# Altium footprint library Ingenic.PcbLib: 2 footprints
Each footprint in its own frame and in the unit in brackets; x right, y up, seen from the top. Pads: shape width x height; smd on the part's side, far side on the other; paste and mask are expansions set on the pad; w line width, h text height; cw(c..) or ccw(c..) is an arc to the next point about the centre after c.
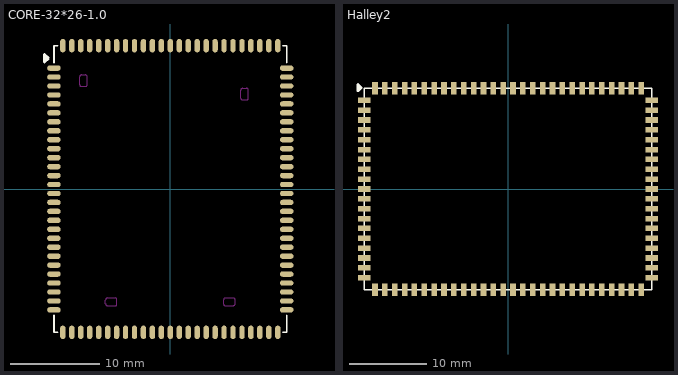
[diagram p0: the footprints below, top view; thin cyan lines are the x and y axes]

## CORE-32*26-1.0 [mm]
height 2.5
pads (106):
  oval 1.5x0.6 smd: 1(-13,13.5) 2(-13,12.5) 3(-13,11.5) 4(-13,10.5) 5(-13,9.5) 6(-13,8.5) 7(-13,7.5) 8(-13,6.5) 9(-13,5.5) 10(-13,4.5) 11(-13,3.5) 12(-13,2.5) 13(-13,1.5) 14(-13,0.5) 15(-13,-0.5) 16(-13,-1.5) 17(-13,-2.5) 18(-13,-3.5) 19(-13,-4.5) 20(-13,-5.5) 21(-13,-6.5) 22(-13,-7.5) 23(-13,-8.5) 24(-13,-9.5) 25(-13,-10.5) 26(-13,-11.5) 27(-13,-12.5) 28(-13,-13.5) 54(13,-13.5) 55(13,-12.5) 56(13,-11.5) 57(13,-10.5) 58(13,-9.5) 59(13,-8.5) 60(13,-7.5) 61(13,-6.5) 62(13,-5.5) 63(13,-4.5) 64(13,-3.5) 65(13,-2.5) 66(13,-1.5) 67(13,-0.5) 68(13,0.5) 69(13,1.5) 70(13,2.5) 71(13,3.5) 72(13,4.5) 73(13,5.5) 74(13,6.5) 75(13,7.5) 76(13,8.5) 77(13,9.5) 78(13,10.5) 79(13,11.5) 80(13,12.5) 81(13,13.5)
  oval 0.6x1.5 smd: 29(-12,-16) 30(-11,-16) 31(-10,-16) 32(-9,-16) 33(-8,-16) 34(-7,-16) 35(-6,-16) 36(-5,-16) 37(-4,-16) 38(-3,-16) 39(-2,-16) 40(-1,-16) 41(0,-16) 42(1,-16) 43(2,-16) 44(3,-16) 45(4,-16) 46(5,-16) 47(6,-16) 48(7,-16) 49(8,-16) 50(9,-16) 51(10,-16) 52(11,-16) 53(12,-16) 82(12,16) 83(11,16) 84(10,16) 85(9,16) 86(8,16) 87(7,16) 88(6,16) 89(5,16) 90(4,16) 91(3,16) 92(2,16) 93(1,16) 94(0,16) 95(-1,16) 96(-2,16) 97(-3,16) 98(-4,16) 99(-5,16) 100(-6,16) 101(-7,16) 102(-8,16) 103(-9,16) 104(-10,16) 105(-11,16) 106(-12,16)
Top Overlay:
  lines w0.2: -13,-14.1 -13,-16 -12.6,-16 ; -13,14.1 -13,16 -12.6,16 ; 12.6,-16 13,-16 13,-14.1 ; 12.6,16 13,16 13,14.1
  lines w0.35: -14.041,14.212 -13.641,14.612 -14.041,15.012 -14.041,14.212
Keep-Out Layer:
  lines w0.127: -10.131,11.64 ccw(c-9.953,11.64) -9.953,11.461 -9.449,11.461 ccw(c-9.449,11.64) -9.27,11.64 -9.27,12.509 ccw(c-9.498,12.509) -9.498,12.737 -9.904,12.737 ccw(c-9.904,12.509) -10.131,12.509 -10.131,11.64 ; -7.237,-12.804 ccw(c-7.009,-12.804) -7.009,-13.031 -6.14,-13.031 ccw(c-6.14,-12.853) -5.961,-12.853 -5.961,-12.349 ccw(c-6.14,-12.349) -6.14,-12.17 -7.009,-12.17 ccw(c-7.009,-12.398) -7.237,-12.398 -7.237,-12.804 ; 5.961,-12.853 ccw(c6.14,-12.853) 6.14,-13.031 7.009,-13.031 ccw(c7.009,-12.804) 7.237,-12.804 7.237,-12.398 ccw(c7.009,-12.398) 7.009,-12.17 6.14,-12.17 ccw(c6.14,-12.349) 5.961,-12.349 5.961,-12.853 ; 7.869,10.14 ccw(c8.047,10.14) 8.047,9.961 8.551,9.961 ccw(c8.551,10.14) 8.73,10.14 8.73,11.009 ccw(c8.502,11.009) 8.502,11.237 8.096,11.237 ccw(c8.096,11.009) 7.869,11.009 7.869,10.14

## Halley2 [mm]
pads (94):
  rect 1.6x0.72 smd: 1(-18.5,11.43) 2(-18.5,10.16) 3(-18.5,8.89) 4(-18.5,7.62) 5(-18.5,6.35) 6(-18.5,5.08) 7(-18.5,3.81) 8(-18.5,2.54) 9(-18.5,1.27) 10(-18.5,0) 11(-18.5,-1.27) 12(-18.5,-2.54) 13(-18.5,-3.81) 14(-18.5,-5.08) 15(-18.5,-6.35) 16(-18.5,-7.62) 17(-18.5,-8.89) 18(-18.5,-10.16) 19(-18.5,-11.43) 48(18.5,-11.43) 49(18.5,-10.16) 50(18.5,-8.89) 51(18.5,-7.62) 52(18.5,-6.35) 53(18.5,-5.08) 54(18.5,-3.81) 55(18.5,-2.54) 56(18.5,-1.27) 57(18.5,0) 58(18.5,1.27) 59(18.5,2.54) 60(18.5,3.81) 61(18.5,5.08) 62(18.5,6.35) 63(18.5,7.62) 64(18.5,8.89) 65(18.5,10.16) 66(18.5,11.43)
  rect 0.72x1.6 smd: 20(-17.145,-13) 21(-15.875,-13) 22(-14.605,-13) 23(-13.335,-13) 24(-12.065,-13) 25(-10.795,-13) 26(-9.525,-13) 27(-8.255,-13) 28(-6.985,-13) 29(-5.715,-13) 30(-4.445,-13) 31(-3.175,-13) 32(-1.905,-13) 33(-0.635,-13) 34(0.635,-13) 35(1.905,-13) 36(3.175,-13) 37(4.445,-13) 38(5.715,-13) 39(6.985,-13) 40(8.255,-13) 41(9.525,-13) 42(10.795,-13) 43(12.065,-13) 44(13.335,-13) 45(14.605,-13) 46(15.875,-13) 47(17.145,-13) 67(17.145,13) 68(15.875,13) 69(14.605,13) 70(13.335,13) 71(12.065,13) 72(10.795,13) 73(9.525,13) 74(8.255,13) 75(6.985,13) 76(5.715,13) 77(4.445,13) 78(3.175,13) 79(1.905,13) 80(0.635,13) 81(-0.635,13) 82(-1.905,13) 83(-3.175,13) 84(-4.445,13) 85(-5.715,13) 86(-6.985,13) 87(-8.255,13) 88(-9.525,13) 89(-10.795,13) 90(-12.065,13) 91(-13.335,13) 92(-14.605,13) 93(-15.875,13) 94(-17.145,13)
Top Overlay:
  lines w0.2: -18.5,-13 18.5,-13 18.5,13 -18.5,13 -18.5,-13
  lines w0.35: -19.329,12.649 -19.329,13.449 ; -19.324,12.637 -18.924,13.037 -19.324,13.437